# EAGLE library part 74HC11D (library NXP_By_element14_Batch_1)
Triple 3-input AND gate
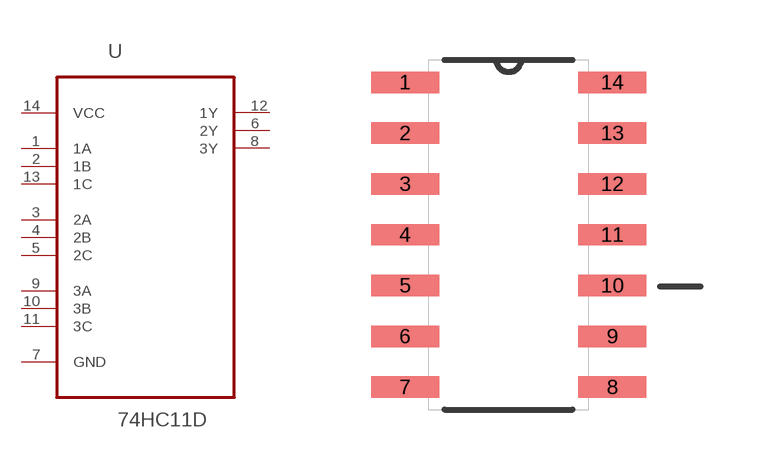
[diagram p23: symbol with the pads of SOIC127P600X175-14N; footprint SOIC127P600X175-14N]

Designator prefix U

## 74HC11D (MPN: 74HC11D; OC_FARNELL: 1201315; OC_NEWARK: 25M5231; P1I: o; PACKAGE: SOIC-14; SUPPLIER: NXP)  [SOIC127P600X175-14N]
1  1A  in
2  1B  in
3  2A  in
4  2B  in
5  2C  in
6  2Y  out
7  GND  pas
8  3Y  out
9  3A  in
10  3B  in
11  3C  in
12  1Y  out
13  1C  in
14  VCC  pwr

## Footprint SOIC127P600X175-14N (pad centres in mm)
smd 1.702 x 0.533: 1 -2.591,3.81; 2 -2.591,2.54; 3 -2.591,1.27; 4 -2.591,0; 5 -2.591,-1.27; 6 -2.591,-2.54; 7 -2.591,-3.81; 8 2.591,-3.81; 9 2.591,-2.54; 10 2.591,-1.27; 11 2.591,0; 12 2.591,1.27; 13 2.591,2.54; 14 2.591,3.81